# EAGLE library part TXB0104D (library TXB0104D)
Check availability <https://pricing.snapeda.com/parts/TXB0104D/Texas%20Instruments/view-part?ref=eda>
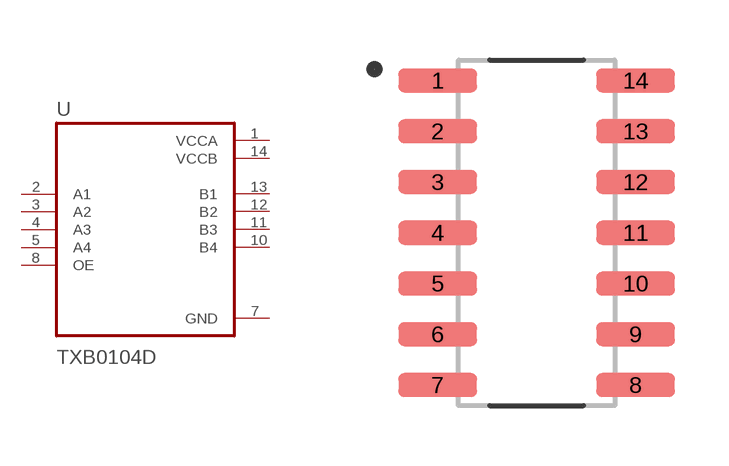
[diagram p0: symbol with the pads of SOIC127P600X175-14N; footprint SOIC127P600X175-14N]

Designator prefix U

## TXB0104D (Availability: In Stock; Description: 4-Bit Bidirectional Voltage-Level Shifter with Auto Direction Sensing and +/-15 kV ESD Protect; MF: Texas Instruments; MP: TXB0104D; Package: SOIC-14 Texas Instruments; Price: None; Purchase-URL: https://pricing.snapeda.com/search/part/TXB0104D/?ref=eda)  [SOIC127P600X175-14N]
1  VCCA  pwr
2  A1  in
3  A2  in
4  A3  in
5  A4  in
7  GND  pwr
8  OE  in
10  B4  out
11  B3  out
12  B2  out
13  B1  out
14  VCCB  pwr

## Footprint SOIC127P600X175-14N (pad centres in mm)
smd 1.97 x 0.6: 1 -2.475,3.81; 2 -2.475,2.54; 3 -2.475,1.27; 4 -2.475,0; 5 -2.475,-1.27; 6 -2.475,-2.54; 7 -2.475,-3.81; 8 2.475,-3.81; 9 2.475,-2.54; 10 2.475,-1.27; 11 2.475,0; 12 2.475,1.27; 13 2.475,2.54; 14 2.475,3.81